# EAGLE library part 12864B (library LARS_409_MODULES)
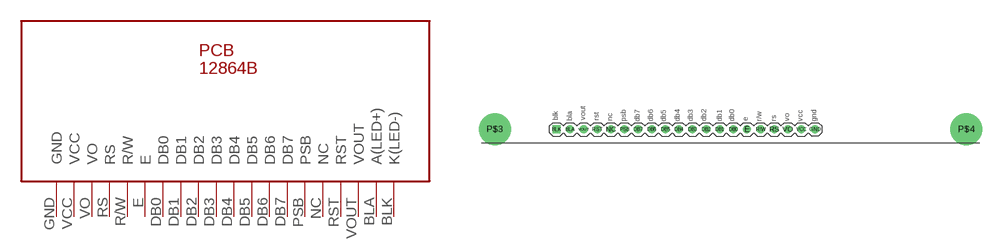
[diagram p1: symbol with the pads of 12864B; footprint 12864B]

Designator prefix PCB

## 12864B  [12864B]
BLA  A(LED+)  pas
BLK  K(LED-)  pas
DB0  DB0
DB1  DB1
DB2  DB2
DB3  DB3
DB4  DB4
DB5  DB5  in
DB6  DB6  in
DB7  DB7  in
E  E
GND  GND  pwr
NC  NC  in
PSB  PSB  in
R/W  R/W
RS  RS
RST  RST  in
VCC  VCC  pwr
VO  VO  pas
VOUT  VOUT  pas

## Footprint 12864B (pad centres in mm)
drill 1: BLA 16.54,2.5; DB0 47.02,2.5; DB1 44.48,2.5; DB2 41.94,2.5; DB3 39.4,2.5; DB4 36.86,2.5; DB5 34.32,2.5; DB6 31.78,2.5; DB7 29.24,2.5; E 49.56,2.5; GND 62.26,2.5; NC 24.16,2.5; PSB 26.7,2.5; R/W 52.1,2.5; RS 54.64,2.5; RST 21.62,2.5; VCC 59.72,2.5; VO 57.18,2.5; VOUT 19.08,2.5
drill 1 square: BLK 14,2.5
drill 3 pad 6: P$3 2.5,2.5; P$4 90.5,2.5